# Altium integrated library ECapSMD.IntLib: 1 symbol
Pins are listed as number, name and electrical type; pins without a type are passive.

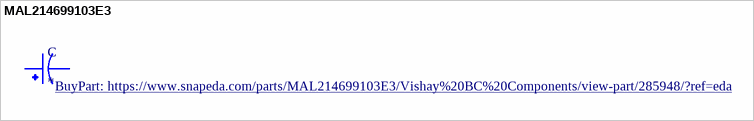
[diagram p0: symbol MAL214699103E3]

## MAL214699103E3
designator C
100ÂµF 50V Aluminum Electrolytic Capacitors Radial, Can - SMD 1500 Hrs @ 125Â°C; MP: MAL214699103E3; MF: Vishay BC; SnapEDA_Link: https://www.snapeda.com/parts/MAL214699103E3/Vishay%20BC%20Components/view-part/285948/?ref=snap; Value: *; Digi-Key_Part_Number: 4437PHCT-ND; Mouser-Purchase-URL: https://snapeda.com/shop?store=Mouser&id=285948; DigiKey-Purchase-URL: https://snapeda.com/shop?store=DigiKey&id=285948; Package: Radial Vishay BC; BuyPart: https://www.snapeda.com/parts/MAL214699103E3/Vishay%20BC%20Components/view-part/285948/?ref=eda
footprint CAPAE1050X1050N
pins: 1, 2